# Altium footprint library PCB - CONNECTOR - USB - Molex 2047110001.PCBLIB: 1 footprints
Each footprint in its own frame and in the unit in brackets; x right, y up, seen from the top. Pads: shape width x height; smd on the part's side, far side on the other; paste and mask are expansions set on the pad; w line width, h text height; cw(c..) or ccw(c..) is an arc to the next point about the centre after c.
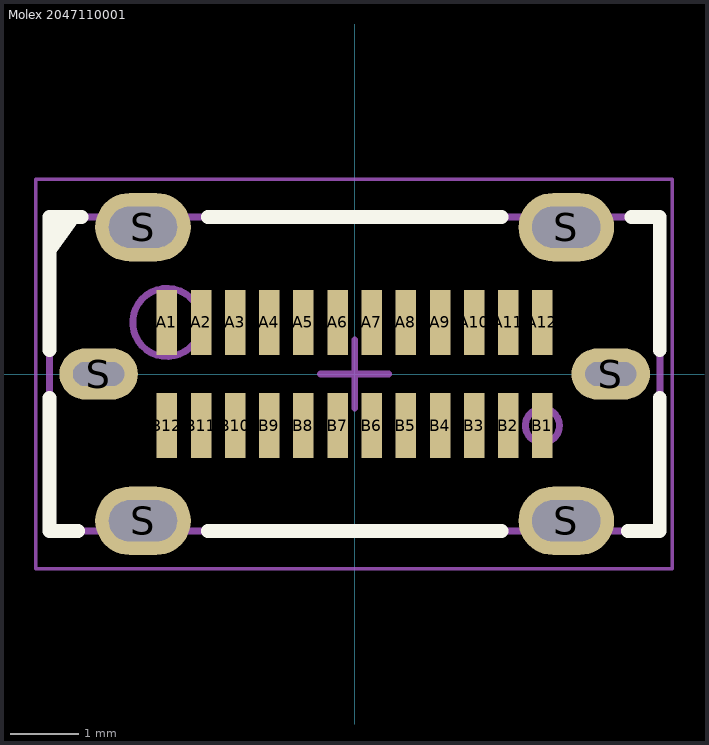
[diagram p0: the footprint, top view; thin cyan lines are the x and y axes]

## Molex 2047110001 [mm] "USB-C Receptacle Connector 24 Position Surface Mount, 24 Connectors, Body 4.60x9.05mm"
pads (30):
  rect 0.3x0.95 smd: A1(-2.75,0.755) A2(-2.25,0.755) A3(-1.75,0.755) A4(-1.25,0.755) A5(-0.75,0.755) A6(-0.25,0.755) A7(0.25,0.755) A8(0.75,0.755) A9(1.25,0.755) A10(1.75,0.755) A11(2.25,0.755) A12(2.75,0.755) B1(2.75,-0.755) B2(2.25,-0.755) B3(1.75,-0.755) B4(1.25,-0.755) B5(0.75,-0.755) B6(0.25,-0.755) B7(-0.25,-0.755) B8(-0.75,-0.755) B9(-1.25,-0.755) B10(-1.75,-0.755) B11(-2.25,-0.755) B12(-2.75,-0.755)
  oval 1.15x0.75 hole 0.35 slot 0.75 at 0 deg: S(-3.75,0) S(3.75,0)
  oval 1.4x1 hole 0.6 slot 1 at 0 deg: S(-3.1,-2.15) S(-3.1,2.15) S(3.1,-2.15) S(3.1,2.15)
Top Overlay:
  region: -4,2.3 -4.47,2.3 -4.47,1.63 -4.5,1.6
  lines w0.2: -4.47,-0.35 -4.47,-2.3 -4.05,-2.3 ; -4.47,0.35 -4.47,2.3 -4,2.3 ; -2.15,-2.3 2.15,-2.3 ; -2.15,2.3 2.15,2.3 ; 4,-2.3 4.47,-2.3 4.47,-0.35 ; 4.05,2.3 4.47,2.3 ; 4.47,0.35 4.47,2.3 ; 4.47,2.3 4.47,2.3 ; 4.47,2.3 4.47,2.3
Mechanical 13:
  circle w0.1: c2.75,-0.755 r0.25
  circle w0.1: c-2.75,0.755 r0.5
  lines w0.1: -4.47,-2.3 -4.47,2.3 4.47,2.3 4.47,-2.3 -4.47,-2.3
Mechanical 15 (Mech15):
  lines w0.05: -4.67,-2.85 -4.67,2.85 4.65,2.85 4.65,-2.85 -4.67,-2.85
  lines w0.1: -0.5,0 0,0 ; 0,-0.5 0,0 ; 0,0.5 0,0 ; 0.5,0 0,0
3D body "Molex - 2047110001 v9.step": height 9.05, standoff -1.4, extent -4.47,-2.3 4.47,2.3